# Altium footprint library SC_SOIC14.PcbLib: 1 footprints
Each footprint in its own frame and in the unit in brackets; x right, y up, seen from the top. Pads: shape width x height; smd on the part's side, far side on the other; paste and mask are expansions set on the pad; w line width, h text height; cw(c..) or ccw(c..) is an arc to the next point about the centre after c.
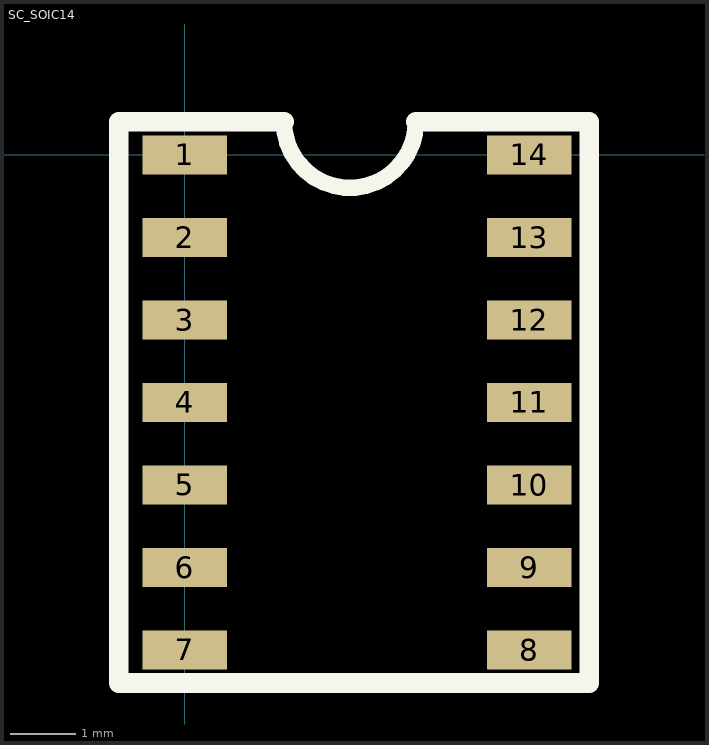
[diagram p0: the footprint, top view; thin cyan lines are the x and y axes]

## SC_SOIC14 [mm] "14-Pin Small Outline Integrated Circuit 1.27 mm Pitch, IPC Medium Density"
height 1.75
pads (14):
  rect 1.3x0.6 smd: 1(0,0) 2(0,-1.27) 3(0,-2.54) 4(0,-3.81) 5(0,-5.08) 6(0,-6.35) 7(0,-7.62) 8(5.3,-7.62) 9(5.3,-6.35) 10(5.3,-5.08) 11(5.3,-3.81) 12(5.3,-2.54) 13(5.3,-1.27) 14(5.3,0)
Top Overlay:
  lines w0.254: 1.524,0.508 ccw(c2.54,0.508) 3.556,0.508
  lines w0.305: 1.524,0.508 -1.016,0.508 -1.016,-8.128 6.223,-8.128 6.223,0.508 3.556,0.508
3D body: height 1.44, standoff -0.16, extent -0.328,-8.155 5.662,0.535